# EAGLE library part PCA9543 (library Philips-semiconductors2)
2-channel I2C switch with interrupt logic and reset Source : http://www.datasheetcatalog.org/datasheet/philips/PCA9543_1.pdf
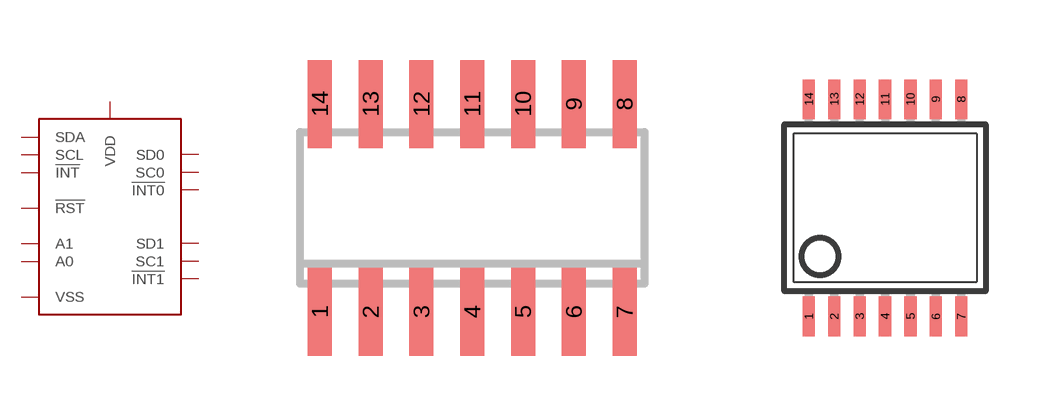
[diagram p71: symbol with the pads of SO14; footprints SO14, TSSOP14]

Designator prefix IC

## PCA9543D  [SO14]
1  A0  pas
2  A1  pas
3  !RST  in
4  !INT0  in
5  SD0
6  SC0
7  VSS  pwr
8  !INT1  in
9  SD1
10  SC1
11  !INT  out
12  SCL
13  SDA
14  VDD  pwr

## PCA9543PW  [TSSOP14]
Pads as for SO14

## Footprint SO14 (pad centres in mm)
Small Outline Package 14
smd 0.6 x 2.2: 1 -3.81,-2.6; 2 -2.54,-2.6; 3 -1.27,-2.6; 4 0,-2.6; 5 1.27,-2.6; 6 2.54,-2.6; 7 3.81,-2.6; 8 3.81,2.6; 9 2.54,2.6; 10 1.27,2.6; 11 0,2.6; 12 -1.27,2.6; 13 -2.54,2.6; 14 -3.81,2.6

## Footprint TSSOP14 (pad centres in mm)
Thin Shrink Small Outline Plastic 14
smd 0.305 x 0.991: 1 -1.905,-2.718; 2 -1.27,-2.718; 3 -0.635,-2.718; 4 0,-2.718; 5 0.635,-2.718; 6 1.27,-2.718; 7 1.905,-2.718; 8 1.905,2.718; 9 1.27,2.718; 10 0.635,2.718; 11 0,2.718; 12 -0.635,2.718; 13 -1.27,2.718; 14 -1.905,2.718